# Altium schematic symbol library buttons.SchLib: 1 symbol
Pins are listed as number, name and electrical type; pins without a type are passive.

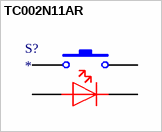
[diagram p0: symbol TC002N11AR]

## TC002N11AR
designator S?
footprint TC002N11AR
pins: 1, 4, 5, 6